# Altium footprint library SC_SOIC16.PcbLib: 1 footprints
Each footprint in its own frame and in the unit in brackets; x right, y up, seen from the top. Pads: shape width x height; smd on the part's side, far side on the other; paste and mask are expansions set on the pad; w line width, h text height; cw(c..) or ccw(c..) is an arc to the next point about the centre after c.
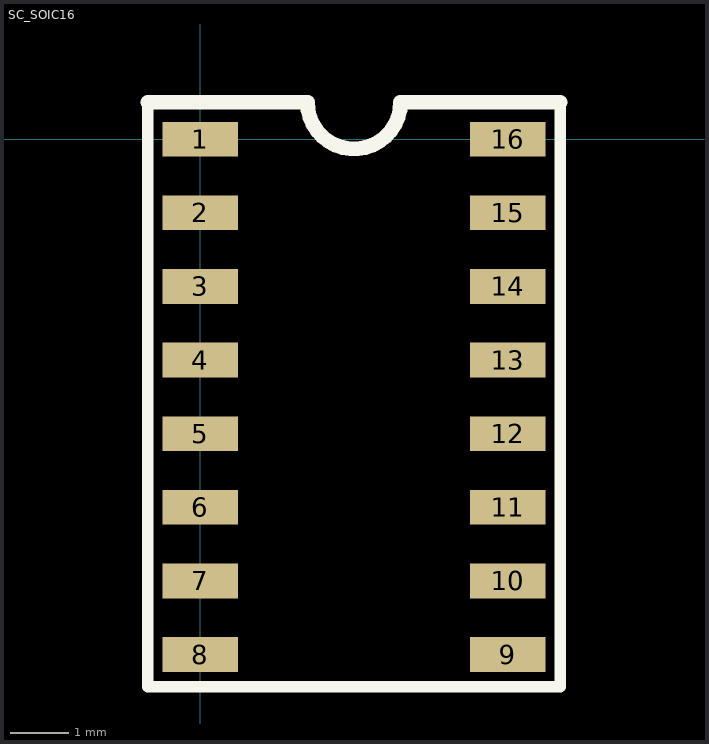
[diagram p0: the footprint, top view; thin cyan lines are the x and y axes]

## SC_SOIC16 [mm] "16-Pin Small Outline Integrated Circuit 1.27 mm Pitch, IPC High Density"
height 1.75
pads (16):
  rect 1.3x0.6 smd: 1(0,0) 2(0,-1.27) 3(0,-2.54) 4(0,-3.81) 5(0,-5.08) 6(0,-6.35) 7(0,-7.62) 8(0,-8.89) 9(5.3,-8.89) 10(5.3,-7.62) 11(5.3,-6.35) 12(5.3,-5.08) 13(5.3,-3.81) 14(5.3,-2.54) 15(5.3,-1.27) 16(5.3,0)
Top Overlay:
  lines w0.2: -0.906,0.555 -0.906,-9.445 6.206,-9.445 6.206,0.555
  lines w0.254: -0.906,0.635 1.847,0.635 ccw(c2.65,0.635) 3.453,0.635 6.206,0.635
3D body: height 1.65, standoff 0, extent -0.39,-9.445 5.69,0.555